# EAGLE library part MMPQ2222A (library CPSS_IC)
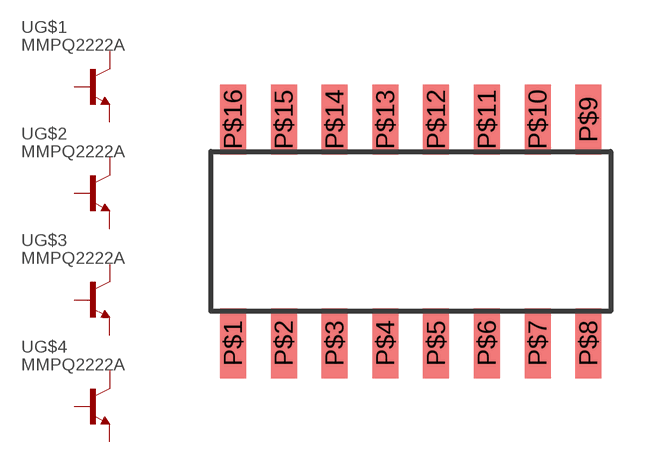
[diagram p3: symbol with the pads of SOIC127P600X175-16AM; footprint SOIC127P600X175-16AM]

Designator prefix -; gates G$1=NPN G$2=NPN G$3=NPN G$4=NPN

## MMPQ2222A  [SOIC127P600X175-16AM]
P$1  G$1:C  pas
P$2  G$1:C  pas
P$3  G$2:C  pas
P$4  G$2:C  pas
P$5  G$3:C  pas
P$6  G$3:C  pas
P$7  G$4:C  pas
P$8  G$4:C  pas
P$9  G$4:B  pas
P$10  G$4:E  pas
P$11  G$3:B  pas
P$12  G$3:E  pas
P$13  G$2:B  pas
P$14  G$2:E  pas
P$15  G$1:B  pas
P$16  G$1:E  pas

## Footprint SOIC127P600X175-16AM (pad centres in mm)
smd 0.65 x 1.75: P$1 -4.445,-2.8; P$2 -3.175,-2.8; P$3 -1.905,-2.8; P$4 -0.635,-2.8; P$5 0.635,-2.8; P$6 1.905,-2.8; P$7 3.175,-2.8; P$8 4.445,-2.8; P$9 4.445,2.8; P$10 3.175,2.8; P$11 1.905,2.8; P$12 0.635,2.8; P$13 -0.635,2.8; P$14 -1.905,2.8; P$15 -3.175,2.8; P$16 -4.445,2.8